# Altium schematic symbol library kmilo17pet-NSC_Amplifier.SchLib: 1665 symbols (part 21 of 44)
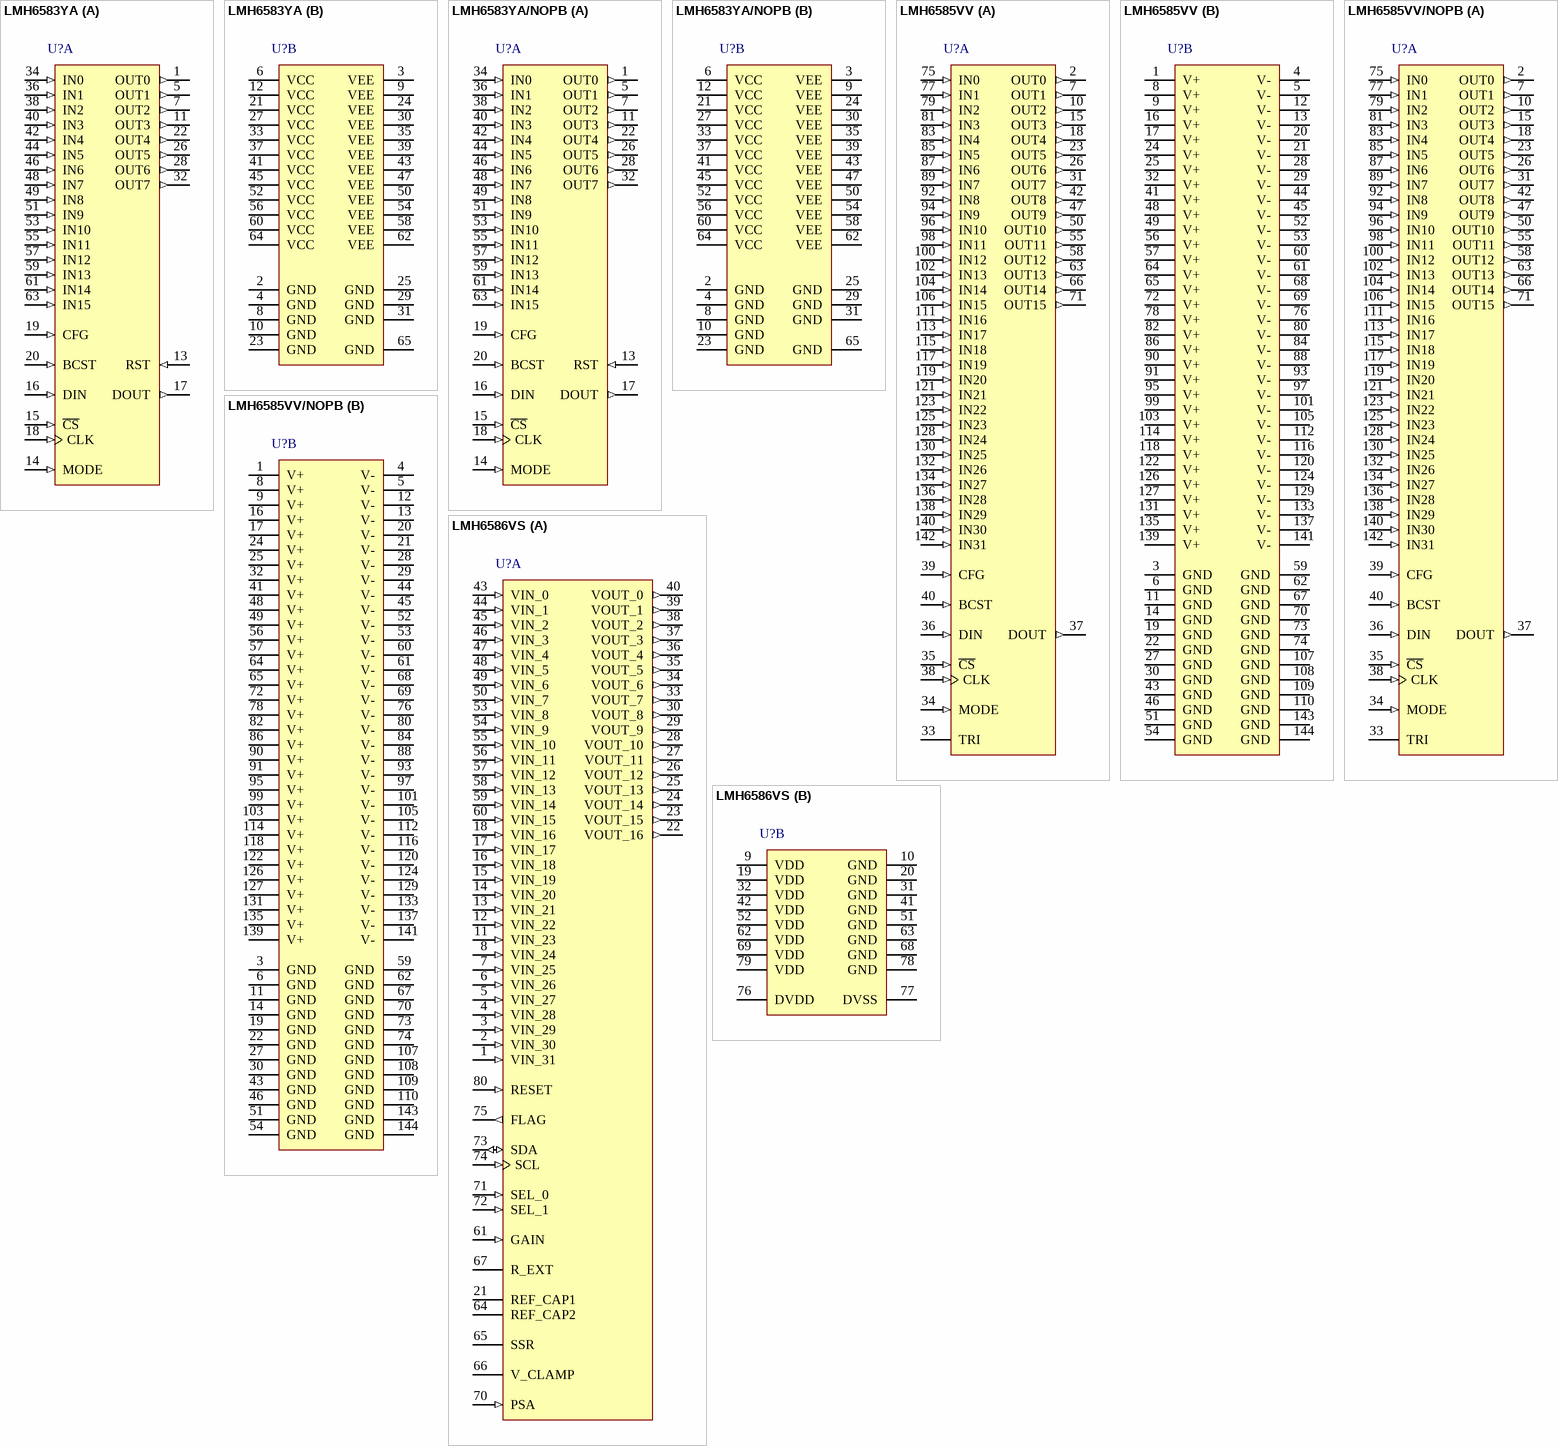
[diagram p104: symbols LMH6583YA to LMH6586VS]

## LMH6583YA/NOPB
designator U?
16x8 550 MHz Analog Crosspoint Switch, Gain of 2, 64-pin TQFP-EP, Pb-Free; PartNumber: LMH6583YA/NOPB; Manufacturer: National Semiconductor; PackageTopMarking: NSUZXYYTTE#*LMH6583YA; PowerWise: N; CompType: Amplifiers; High-Reliability: Y; DatasheetVersion: Aug-2007; PackageVersion: revA, May-2004; PackageReference: VXE64A; PackageDescription: TQFP, 10x10x1mm Body, 64 Lead, 0.5mm Pitch, Exposed Pad; RoHS: Y; PinCount: 64; Code_JEDEC: MS-026-ACD; ComponentLink1Description: Manufacturer URL; ComponentLink1URL: http://www.national.com/; ComponentLink2Description: LMH6583 Datasheet; ComponentLink2URL: http://www.national.com/ds/LM/LMH6583.pdf; ComponentLink3Description: LMH6583 Web Page; ComponentLink3URL: http://www.national.com/pf/LM/LMH6583.html; ComponentLink4Description: VXE64A Package Page; ComponentLink4URL: http://www.national.com/packaging/folders/vxe64a.html
footprint VXE64A_N (Thin QFP, 64-Leads, Body 10x10mm, Pitch 0.5mm, Exposed Pad, IPC Medium Density)
footprint VXE64A_L (Thin QFP, 64-Leads, Body 10x10mm, Pitch 0.5mm, Exposed Pad, IPC High Density)
footprint VXE64A_M (Thin QFP, 64-Leads, Body 10x10mm, Pitch 0.5mm, Exposed Pad, IPC Low Density)
part A pins: 1 OUT0 (out), 5 OUT1 (out), 7 OUT2 (out), 11 OUT3 (out), 13 RST (in), 14 MODE (in), 15 ~{CS} (in), 16 DIN (in), 17 DOUT (out), 18 CLK (in), 19 CFG (in), 20 BCST (in), 22 OUT4 (out), 26 OUT5 (out), 28 OUT6 (out), 32 OUT7 (out), 34 IN0 (in), 36 IN1 (in), 38 IN2 (in), 40 IN3 (in), 42 IN4 (in), 44 IN5 (in), 46 IN6 (in), 48 IN7 (in), 49 IN8 (in), 51 IN9 (in), 53 IN10 (in), 55 IN11 (in), 57 IN12 (in), 59 IN13 (in), 61 IN14 (in), 63 IN15 (in)
part B pins: 2 GND (power), 3 VEE (power), 4 GND (power), 6 VCC (power), 8 GND (power), 9 VEE (power), 10 GND (power), 12 VCC (power), 21 VCC (power), 23 GND (power), 24 VEE (power), 25 GND (power), 27 VCC (power), 29 GND (power), 30 VEE (power), 31 GND (power), 33 VCC (power), 35 VEE (power), 37 VCC (power), 39 VEE (power), 41 VCC (power), 43 VEE (power), 45 VCC (power), 47 VEE (power), 50 VEE (power), 52 VCC (power), 54 VEE (power), 56 VCC (power), 58 VEE (power), 60 VCC (power), 62 VEE (power), 64 VCC (power), 65 GND (power)

## LMH6585VV
designator U?
32x16 400 MHz Analog Crosspoint Switch, Gain of 2, 144-pin LQFP; PartNumber: LMH6585VV; Manufacturer: National Semiconductor; PackageTopMarking: NSUZXYYTTE#*LMH6585VV; PowerWise: N; CompType: Amplifiers; High-Reliability: Y; DatasheetVersion: Oct-2008; PackageVersion: verA, Mar-2007; PackageReference: VNG144C; PackageDescription: LQFP, 20 x 20 x 1.4mm Body, 144 Lead, 0.5mm Pitch; RoHS: Y; PinCount: 144; Code_JEDEC: MS-026-BFB; ComponentLink1Description: Manufacturer URL; ComponentLink1URL: http://www.national.com/; ComponentLink2Description: LMH6585 Datasheet; ComponentLink2URL: http://www.national.com/ds/LM/LMH6585.pdf; ComponentLink3Description: LMH6585 Web Page; ComponentLink3URL: http://www.national.com/pf/LM/LMH6585.html; ComponentLink4Description: VNG144C Package Page; ComponentLink4URL: http://www.national.com/packaging/folders/vng144c.html
footprint VNG144C_N (Thin QFP, 144-Leads, Body 20x20mm, Pitch 0.5mm, IPC Medium Density)
footprint VNG144C_L (Thin QFP, 144-Leads, Body 20x20mm, Pitch 0.5mm, IPC High Density)
footprint VNG144C_M (Thin QFP, 144-Leads, Body 20x20mm, Pitch 0.5mm, IPC Low Density)
part A pins: 2 OUT0 (out), 7 OUT1 (out), 10 OUT2 (out), 15 OUT3 (out), 18 OUT4 (out), 23 OUT5 (out), 26 OUT6 (out), 31 OUT7 (out), 33 TRI, 34 MODE (in), 35 ~{CS} (in), 36 DIN (in), 37 DOUT (out), 38 CLK (in), 39 CFG (in), 40 BCST (in), 42 OUT8 (out), 47 OUT9 (out), 50 OUT10 (out), 55 OUT11 (out), 58 OUT12 (out), 63 OUT13 (out), 66 OUT14 (out), 71 OUT15 (out), 75 IN0 (in), 77 IN1 (in), 79 IN2 (in), 81 IN3 (in), 83 IN4 (in), 85 IN5 (in), 87 IN6 (in), 89 IN7 (in), 92 IN8 (in), 94 IN9 (in), 96 IN10 (in), 98 IN11 (in), 100 IN12 (in), 102 IN13 (in), 104 IN14 (in), 106 IN15 (in), 111 IN16 (in), 113 IN17 (in), 115 IN18 (in), 117 IN19 (in), 119 IN20 (in), 121 IN21 (in), 123 IN22 (in), 125 IN23 (in), 128 IN24 (in), 130 IN25 (in), 132 IN26 (in), 134 IN27 (in), 136 IN28 (in), 138 IN29 (in), 140 IN30 (in), 142 IN31 (in)
part B pins: 1 V+ (power), 3 GND (power), 4 V- (power), 5 V- (power), 6 GND (power), 8 V+ (power), 9 V+ (power), 11 GND (power), 12 V- (power), 13 V- (power), 14 GND (power), 16 V+ (power), 17 V+ (power), 19 GND (power), 20 V- (power), 21 V- (power), 22 GND (power), 24 V+ (power), 25 V+ (power), 27 GND (power), 28 V- (power), 29 V- (power), 30 GND (power), 32 V+ (power), 41 V+ (power), 43 GND (power), 44 V- (power), 45 V- (power), 46 GND (power), 48 V+ (power), 49 V+ (power), 51 GND (power), 52 V- (power), 53 V- (power), 54 GND (power), 56 V+ (power), 57 V+ (power), 59 GND (power), 60 V- (power), 61 V- (power), 62 GND (power), 64 V+ (power), 65 V+ (power), 67 GND (power), 68 V- (power), 69 V- (power), 70 GND (power), 72 V+ (power), 73 GND (power), 74 GND (power), 76 V- (power), 78 V+ (power), 80 V- (power), 82 V+ (power), 84 V- (power), 86 V+ (power), 88 V- (power), 90 V+ (power), 91 V+ (power), 93 V- (power), 95 V+ (power), 97 V- (power), 99 V+ (power), 101 V- (power), 103 V+ (power), 105 V- (power), 107 GND (power), 108 GND (power), 109 GND (power), 110 GND (power), 112 V- (power), 114 V+ (power), 116 V- (power), 118 V+ (power), 120 V- (power), 122 V+ (power), 124 V- (power), 126 V+ (power), 127 V+ (power), 129 V- (power), 131 V+ (power), 133 V- (power), 135 V+ (power), 137 V- (power), 139 V+ (power), 141 V- (power), 143 GND (power), 144 GND (power)

## LMH6585VV/NOPB
designator U?
32x16 400 MHz Analog Crosspoint Switch, Gain of 2, 144-pin LQFP, Pb-Free; PartNumber: LMH6585VV/NOPB; Manufacturer: National Semiconductor; PackageTopMarking: NSUZXYYTTE#*LMH6585VV; PowerWise: N; CompType: Amplifiers; High-Reliability: Y; DatasheetVersion: Oct-2008; PackageVersion: verA, Mar-2007; PackageReference: VNG144C; PackageDescription: LQFP, 20 x 20 x 1.4mm Body, 144 Lead, 0.5mm Pitch; RoHS: Y; PinCount: 144; Code_JEDEC: MS-026-BFB; ComponentLink1Description: Manufacturer URL; ComponentLink1URL: http://www.national.com/; ComponentLink2Description: LMH6585 Datasheet; ComponentLink2URL: http://www.national.com/ds/LM/LMH6585.pdf; ComponentLink3Description: LMH6585 Web Page; ComponentLink3URL: http://www.national.com/pf/LM/LMH6585.html; ComponentLink4Description: VNG144C Package Page; ComponentLink4URL: http://www.national.com/packaging/folders/vng144c.html
footprint VNG144C_N (Thin QFP, 144-Leads, Body 20x20mm, Pitch 0.5mm, IPC Medium Density)
footprint VNG144C_L (Thin QFP, 144-Leads, Body 20x20mm, Pitch 0.5mm, IPC High Density)
footprint VNG144C_M (Thin QFP, 144-Leads, Body 20x20mm, Pitch 0.5mm, IPC Low Density)
part A pins: 2 OUT0 (out), 7 OUT1 (out), 10 OUT2 (out), 15 OUT3 (out), 18 OUT4 (out), 23 OUT5 (out), 26 OUT6 (out), 31 OUT7 (out), 33 TRI, 34 MODE (in), 35 ~{CS} (in), 36 DIN (in), 37 DOUT (out), 38 CLK (in), 39 CFG (in), 40 BCST (in), 42 OUT8 (out), 47 OUT9 (out), 50 OUT10 (out), 55 OUT11 (out), 58 OUT12 (out), 63 OUT13 (out), 66 OUT14 (out), 71 OUT15 (out), 75 IN0 (in), 77 IN1 (in), 79 IN2 (in), 81 IN3 (in), 83 IN4 (in), 85 IN5 (in), 87 IN6 (in), 89 IN7 (in), 92 IN8 (in), 94 IN9 (in), 96 IN10 (in), 98 IN11 (in), 100 IN12 (in), 102 IN13 (in), 104 IN14 (in), 106 IN15 (in), 111 IN16 (in), 113 IN17 (in), 115 IN18 (in), 117 IN19 (in), 119 IN20 (in), 121 IN21 (in), 123 IN22 (in), 125 IN23 (in), 128 IN24 (in), 130 IN25 (in), 132 IN26 (in), 134 IN27 (in), 136 IN28 (in), 138 IN29 (in), 140 IN30 (in), 142 IN31 (in)
part B pins: 1 V+ (power), 3 GND (power), 4 V- (power), 5 V- (power), 6 GND (power), 8 V+ (power), 9 V+ (power), 11 GND (power), 12 V- (power), 13 V- (power), 14 GND (power), 16 V+ (power), 17 V+ (power), 19 GND (power), 20 V- (power), 21 V- (power), 22 GND (power), 24 V+ (power), 25 V+ (power), 27 GND (power), 28 V- (power), 29 V- (power), 30 GND (power), 32 V+ (power), 41 V+ (power), 43 GND (power), 44 V- (power), 45 V- (power), 46 GND (power), 48 V+ (power), 49 V+ (power), 51 GND (power), 52 V- (power), 53 V- (power), 54 GND (power), 56 V+ (power), 57 V+ (power), 59 GND (power), 60 V- (power), 61 V- (power), 62 GND (power), 64 V+ (power), 65 V+ (power), 67 GND (power), 68 V- (power), 69 V- (power), 70 GND (power), 72 V+ (power), 73 GND (power), 74 GND (power), 76 V- (power), 78 V+ (power), 80 V- (power), 82 V+ (power), 84 V- (power), 86 V+ (power), 88 V- (power), 90 V+ (power), 91 V+ (power), 93 V- (power), 95 V+ (power), 97 V- (power), 99 V+ (power), 101 V- (power), 103 V+ (power), 105 V- (power), 107 GND (power), 108 GND (power), 109 GND (power), 110 GND (power), 112 V- (power), 114 V+ (power), 116 V- (power), 118 V+ (power), 120 V- (power), 122 V+ (power), 124 V- (power), 126 V+ (power), 127 V+ (power), 129 V- (power), 131 V+ (power), 133 V- (power), 135 V+ (power), 137 V- (power), 139 V+ (power), 141 V- (power), 143 GND (power), 144 GND (power)

## LMH6586VS
designator U?
32x16 Video Crosspoint Switch, 80-pin TQFP; PartNumber: LMH6586VS; Manufacturer: National Semiconductor; PackageTopMarking: NSUZXYTT*LMH6586VS; PowerWise: N; CompType: Amplifiers; High-Reliability: Y; DatasheetVersion: Jul-2008; PackageVersion: revB, Dec-1999; PackageReference: VHB80A; PackageDescription: LQFP, Jedec, Metric, 12 x 12 x 1.0mm, 80 Lead; RoHS: Y; PinCount: 80; Code_JEDEC: MS-026-ADD; ComponentLink1Description: Manufacturer URL; ComponentLink1URL: http://www.national.com/; ComponentLink2Description: LMH6586 Datasheet; ComponentLink2URL: http://www.national.com/ds/LM/LMH6586.pdf; ComponentLink3Description: LMH6586 Web Page; ComponentLink3URL: http://www.national.com/pf/LM/LMH6586.html; ComponentLink4Description: VHB80A Package Page; ComponentLink4URL: http://www.national.com/packaging/folders/vhb80a.html
footprint VHB80A_N (Thin QFP, 80-Leads, Body 12x12mm, Pitch 0.5mm, IPC Medium Density)
footprint VHB80A_L (Thin QFP, 80-Leads, Body 12x12mm, Pitch 0.5mm, IPC High Density)
footprint VHB80A_M (Thin QFP, 80-Leads, Body 12x12mm, Pitch 0.5mm, IPC Low Density)
part A pins: 1 VIN_31 (in), 2 VIN_30 (in), 3 VIN_29 (in), 4 VIN_28 (in), 5 VIN_27 (in), 6 VIN_26 (in), 7 VIN_25 (in), 8 VIN_24 (in), 11 VIN_23 (in), 12 VIN_22 (in), 13 VIN_21 (in), 14 VIN_20 (in), 15 VIN_19 (in), 16 VIN_18 (in), 17 VIN_17 (in), 18 VIN_16 (in), 21 REF_CAP1, 22 VOUT_16 (out), 23 VOUT_15 (out), 24 VOUT_14 (out), 25 VOUT_13 (out), 26 VOUT_12 (out), 27 VOUT_11 (out), 28 VOUT_10 (out), 29 VOUT_9 (out), 30 VOUT_8 (out), 33 VOUT_7 (out), 34 VOUT_6 (out), 35 VOUT_5 (out), 36 VOUT_4 (out), 37 VOUT_3 (out), 38 VOUT_2 (out), 39 VOUT_1 (out), 40 VOUT_0 (out), 43 VIN_0 (in), 44 VIN_1 (in), 45 VIN_2 (in), 46 VIN_3 (in), 47 VIN_4 (in), 48 VIN_5 (in), 49 VIN_6 (in), 50 VIN_7 (in), 53 VIN_8 (in), 54 VIN_9 (in), 55 VIN_10 (in), 56 VIN_11 (in), 57 VIN_12 (in), 58 VIN_13 (in), 59 VIN_14 (in), 60 VIN_15 (in), 61 GAIN (in), 64 REF_CAP2, 65 SSR (power), 66 V_CLAMP, 67 R_EXT, 70 PSA (in), 71 SEL_0 (in), 72 SEL_1 (in), 73 SDA (io), 74 SCL (in), 75 FLAG (out), 80 RESET (in)
part B pins: 9 VDD (power), 10 GND (power), 19 VDD (power), 20 GND (power), 31 GND (power), 32 VDD (power), 41 GND (power), 42 VDD (power), 51 GND (power), 52 VDD (power), 62 VDD (power), 63 GND (power), 68 GND (power), 69 VDD (power), 76 DVDD (power), 77 DVSS (power), 78 GND (power), 79 VDD (power)

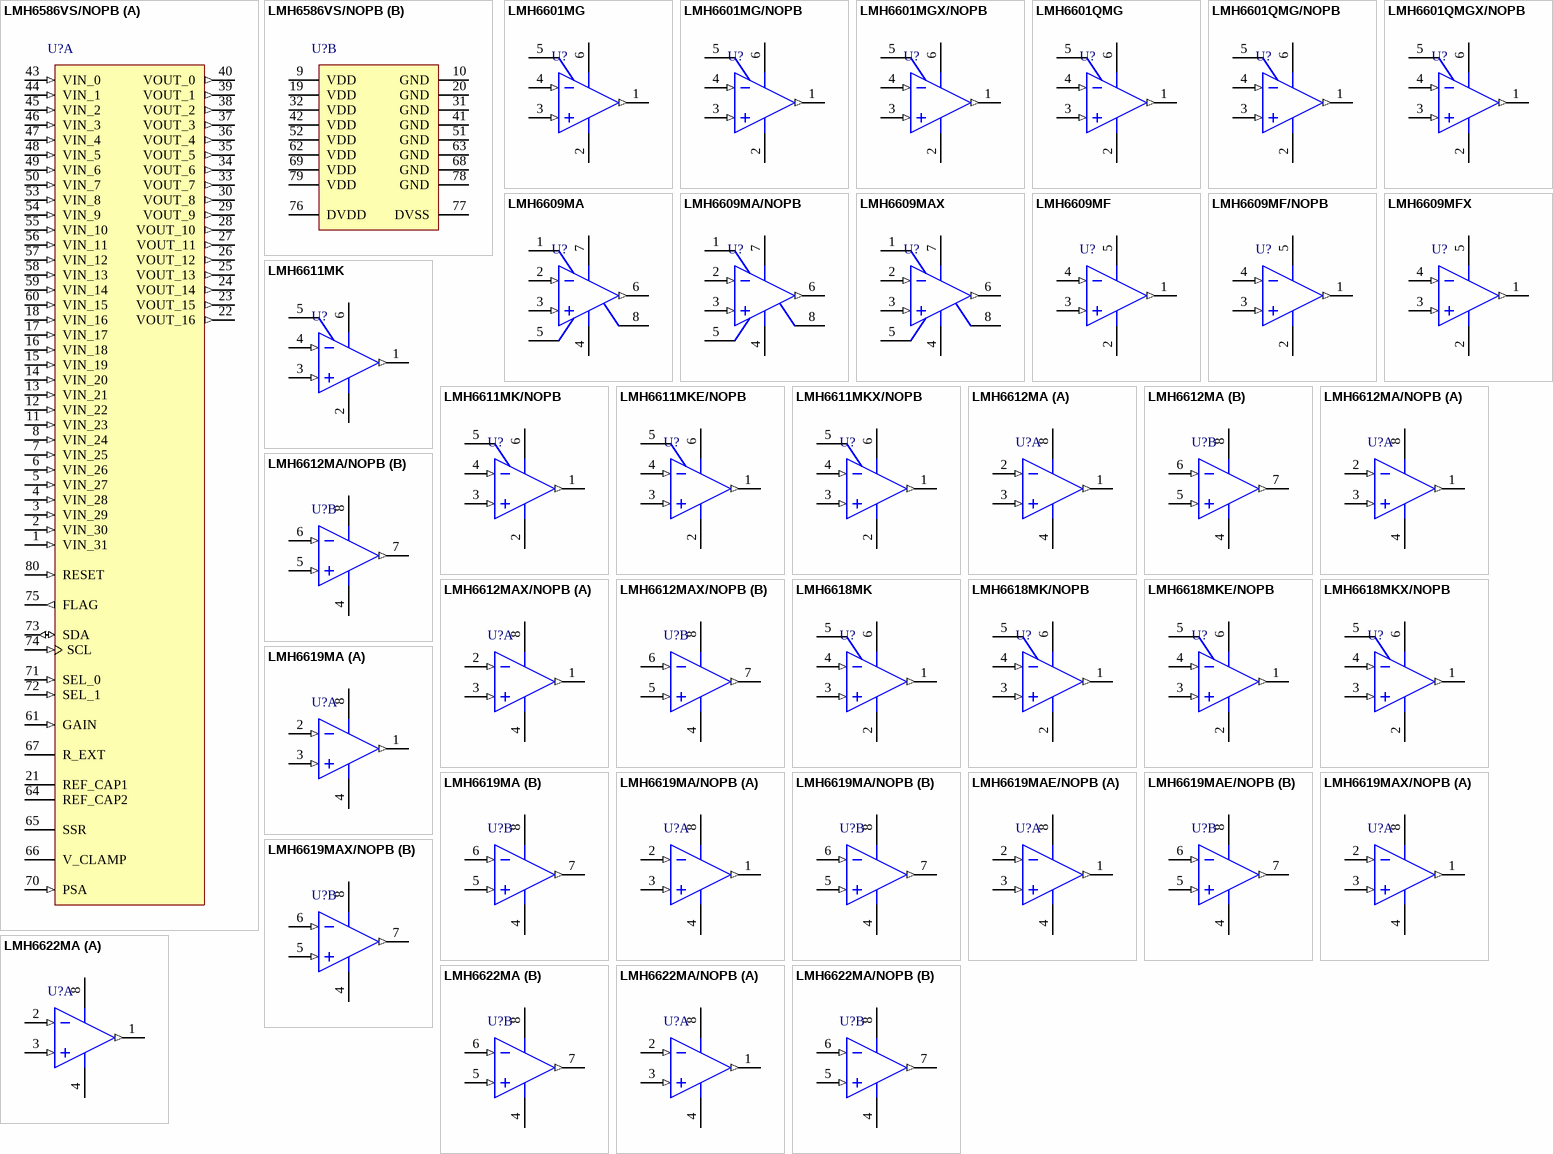
[diagram p44: symbols LMH6586VS/NOPB to LMH6622MA/NOPB]

## LMH6586VS/NOPB
designator U?
32x16 Video Crosspoint Switch, 80-pin TQFP, Pb-Free; PartNumber: LMH6586VS/NOPB; Manufacturer: National Semiconductor; PackageTopMarking: NSUZXYTTE#*LMH6586VS; PowerWise: N; CompType: Amplifiers; High-Reliability: Y; DatasheetVersion: Jul-2008; PackageVersion: revB, Dec-1999; PackageReference: VHB80A; PackageDescription: LQFP, Jedec, Metric, 12 x 12 x 1.0mm, 80 Lead; RoHS: Y; PinCount: 80; Code_JEDEC: MS-026-ADD; ComponentLink1Description: Manufacturer URL; ComponentLink1URL: http://www.national.com/; ComponentLink2Description: LMH6586 Datasheet; ComponentLink2URL: http://www.national.com/ds/LM/LMH6586.pdf; ComponentLink3Description: LMH6586 Web Page; ComponentLink3URL: http://www.national.com/pf/LM/LMH6586.html; ComponentLink4Description: VHB80A Package Page; ComponentLink4URL: http://www.national.com/packaging/folders/vhb80a.html
footprint VHB80A_N (Thin QFP, 80-Leads, Body 12x12mm, Pitch 0.5mm, IPC Medium Density)
footprint VHB80A_L (Thin QFP, 80-Leads, Body 12x12mm, Pitch 0.5mm, IPC High Density)
footprint VHB80A_M (Thin QFP, 80-Leads, Body 12x12mm, Pitch 0.5mm, IPC Low Density)
part A pins: 1 VIN_31 (in), 2 VIN_30 (in), 3 VIN_29 (in), 4 VIN_28 (in), 5 VIN_27 (in), 6 VIN_26 (in), 7 VIN_25 (in), 8 VIN_24 (in), 11 VIN_23 (in), 12 VIN_22 (in), 13 VIN_21 (in), 14 VIN_20 (in), 15 VIN_19 (in), 16 VIN_18 (in), 17 VIN_17 (in), 18 VIN_16 (in), 21 REF_CAP1, 22 VOUT_16 (out), 23 VOUT_15 (out), 24 VOUT_14 (out), 25 VOUT_13 (out), 26 VOUT_12 (out), 27 VOUT_11 (out), 28 VOUT_10 (out), 29 VOUT_9 (out), 30 VOUT_8 (out), 33 VOUT_7 (out), 34 VOUT_6 (out), 35 VOUT_5 (out), 36 VOUT_4 (out), 37 VOUT_3 (out), 38 VOUT_2 (out), 39 VOUT_1 (out), 40 VOUT_0 (out), 43 VIN_0 (in), 44 VIN_1 (in), 45 VIN_2 (in), 46 VIN_3 (in), 47 VIN_4 (in), 48 VIN_5 (in), 49 VIN_6 (in), 50 VIN_7 (in), 53 VIN_8 (in), 54 VIN_9 (in), 55 VIN_10 (in), 56 VIN_11 (in), 57 VIN_12 (in), 58 VIN_13 (in), 59 VIN_14 (in), 60 VIN_15 (in), 61 GAIN (in), 64 REF_CAP2, 65 SSR (power), 66 V_CLAMP, 67 R_EXT, 70 PSA (in), 71 SEL_0 (in), 72 SEL_1 (in), 73 SDA (io), 74 SCL (in), 75 FLAG (out), 80 RESET (in)
part B pins: 9 VDD (power), 10 GND (power), 19 VDD (power), 20 GND (power), 31 GND (power), 32 VDD (power), 41 GND (power), 42 VDD (power), 51 GND (power), 52 VDD (power), 62 VDD (power), 63 GND (power), 68 GND (power), 69 VDD (power), 76 DVDD (power), 77 DVSS (power), 78 GND (power), 79 VDD (power)

## LMH6601MG
designator U?
250 MHz, 2.4V CMOS Operational Amplifier with Shutdown, 6-pin SC-70; PartNumber: LMH6601MG; Manufacturer: National Semiconductor; PackageTopMarking: A95*XTT; PowerWise: N; CompType: Amplifiers; High-Reliability: Y; DatasheetVersion: Oct-2009; PackageVersion: revB, Jun-2007; PackageReference: MAA06A; PackageDescription: Molded SC-70, 2 x 1.25 x .9mm, 6 Lead, 0.65mm Pitch; RoHS: Y; PinCount: 6; ComponentLink1Description: Manufacturer URL; ComponentLink1URL: http://www.national.com/; ComponentLink2Description: LMH6601 Datasheet; ComponentLink2URL: http://www.national.com/ds/LM/LMH6601.pdf; ComponentLink3Description: LMH6601 Web Page; ComponentLink3URL: http://www.national.com/pf/LM/LMH6601.html; ComponentLink4Description: MAA06A Package Page; ComponentLink4URL: http://www.national.com/packaging/folders/maa06a.html
footprint MAA06A_N (SOT363, 6-Leads, Body 2x1.3mm, Pitch 0.65mm, Lead Span 2.1mm, IPC Medium Density)
footprint MAA06A_L (SOT363, 6-Leads, Body 2x1.3mm, Pitch 0.65mm, Lead Span 2.1mm, IPC High Density)
footprint MAA06A_M (SOT363, 6-Leads, Body 2x1.3mm, Pitch 0.65mm, Lead Span 2.1mm, IPC Low Density)
pins: 1 OUT (out), 2 V- (power), 3 IN+ (in), 4 IN- (in), 5 ~{SD}, 6 V+ (power)

## LMH6601MG/NOPB
designator U?
250 MHz, 2.4V CMOS Operational Amplifier with Shutdown, 6-pin SC-70, Pb-Free; PartNumber: LMH6601MG/NOPB; Manufacturer: National Semiconductor; PackageTopMarking: A95*XTT; PowerWise: N; CompType: Amplifiers; High-Reliability: Y; DatasheetVersion: Oct-2009; PackageVersion: revB, Jun-2007; PackageReference: MAA06A; PackageDescription: Molded SC-70, 2 x 1.25 x .9mm, 6 Lead, 0.65mm Pitch; RoHS: Y; PinCount: 6; ComponentLink1Description: Manufacturer URL; ComponentLink1URL: http://www.national.com/; ComponentLink2Description: LMH6601 Datasheet; ComponentLink2URL: http://www.national.com/ds/LM/LMH6601.pdf; ComponentLink3Description: LMH6601 Web Page; ComponentLink3URL: http://www.national.com/pf/LM/LMH6601.html; ComponentLink4Description: MAA06A Package Page; ComponentLink4URL: http://www.national.com/packaging/folders/maa06a.html
footprint MAA06A_N (SOT363, 6-Leads, Body 2x1.3mm, Pitch 0.65mm, Lead Span 2.1mm, IPC Medium Density)
footprint MAA06A_L (SOT363, 6-Leads, Body 2x1.3mm, Pitch 0.65mm, Lead Span 2.1mm, IPC High Density)
footprint MAA06A_M (SOT363, 6-Leads, Body 2x1.3mm, Pitch 0.65mm, Lead Span 2.1mm, IPC Low Density)
pins: 1 OUT (out), 2 V- (power), 3 IN+ (in), 4 IN- (in), 5 ~{SD}, 6 V+ (power)

## LMH6601MGX/NOPB
designator U?
250 MHz, 2.4V CMOS Operational Amplifier with Shutdown, 6-pin SC-70, Pb-Free; PartNumber: LMH6601MGX/NOPB; Manufacturer: National Semiconductor; PackageTopMarking: A95*XTT; PowerWise: N; CompType: Amplifiers; High-Reliability: Y; DatasheetVersion: Oct-2009; PackageVersion: revB, Jun-2007; PackageReference: MAA06A; PackageDescription: Molded SC-70, 2 x 1.25 x .9mm, 6 Lead, 0.65mm Pitch; RoHS: Y; PinCount: 6; ComponentLink1Description: Manufacturer URL; ComponentLink1URL: http://www.national.com/; ComponentLink2Description: LMH6601 Datasheet; ComponentLink2URL: http://www.national.com/ds/LM/LMH6601.pdf; ComponentLink3Description: LMH6601 Web Page; ComponentLink3URL: http://www.national.com/pf/LM/LMH6601.html; ComponentLink4Description: MAA06A Package Page; ComponentLink4URL: http://www.national.com/packaging/folders/maa06a.html
footprint MAA06A_N (SOT363, 6-Leads, Body 2x1.3mm, Pitch 0.65mm, Lead Span 2.1mm, IPC Medium Density)
footprint MAA06A_L (SOT363, 6-Leads, Body 2x1.3mm, Pitch 0.65mm, Lead Span 2.1mm, IPC High Density)
footprint MAA06A_M (SOT363, 6-Leads, Body 2x1.3mm, Pitch 0.65mm, Lead Span 2.1mm, IPC Low Density)
pins: 1 OUT (out), 2 V- (power), 3 IN+ (in), 4 IN- (in), 5 ~{SD}, 6 V+ (power)

## LMH6601QMG
designator U?
250 MHz, 2.4V CMOS Operational Amplifier with Shutdown, 6-pin SC-70; PartNumber: LMH6601QMG; Manufacturer: National Semiconductor; PackageTopMarking: AKA*XTT; PowerWise: N; CompType: Amplifiers; High-Reliability: Y; DatasheetVersion: Oct-2009; PackageVersion: revB, Jun-2007; PackageReference: MAA06A; PackageDescription: Molded SC-70, 2 x 1.25 x .9mm, 6 Lead, 0.65mm Pitch; RoHS: Y; PinCount: 6; ComponentLink1Description: Manufacturer URL; ComponentLink1URL: http://www.national.com/; ComponentLink2Description: LMH6601Q Datasheet; ComponentLink2URL: http://www.national.com/ds/LM/LMH6601.pdf; ComponentLink3Description: LMH6601Q Web Page; ComponentLink3URL: http://www.national.com/pf/LM/LMH6601Q.html; ComponentLink4Description: MAA06A Package Page; ComponentLink4URL: http://www.national.com/packaging/folders/maa06a.html
footprint MAA06A_N (SOT363, 6-Leads, Body 2x1.3mm, Pitch 0.65mm, Lead Span 2.1mm, IPC Medium Density)
footprint MAA06A_L (SOT363, 6-Leads, Body 2x1.3mm, Pitch 0.65mm, Lead Span 2.1mm, IPC High Density)
footprint MAA06A_M (SOT363, 6-Leads, Body 2x1.3mm, Pitch 0.65mm, Lead Span 2.1mm, IPC Low Density)
pins: 1 OUT (out), 2 V- (power), 3 IN+ (in), 4 IN- (in), 5 ~{SD}, 6 V+ (power)

## LMH6601QMG/NOPB
designator U?
250 MHz, 2.4V CMOS Operational Amplifier with Shutdown, 6-pin SC-70, Pb-Free; PartNumber: LMH6601QMG/NOPB; Manufacturer: National Semiconductor; PackageTopMarking: AKA*XTT; PowerWise: N; CompType: Amplifiers; High-Reliability: Y; DatasheetVersion: Oct-2009; PackageVersion: revB, Jun-2007; PackageReference: MAA06A; PackageDescription: Molded SC-70, 2 x 1.25 x .9mm, 6 Lead, 0.65mm Pitch; RoHS: Y; PinCount: 6; ComponentLink1Description: Manufacturer URL; ComponentLink1URL: http://www.national.com/; ComponentLink2Description: LMH6601 Datasheet; ComponentLink2URL: http://www.national.com/ds/LM/LMH6601.pdf; ComponentLink3Description: LMH6601 Web Page; ComponentLink3URL: http://www.national.com/pf/LM/LMH6601.html; ComponentLink4Description: MAA06A Package Page; ComponentLink4URL: http://www.national.com/packaging/folders/maa06a.html
footprint MAA06A_N (SOT363, 6-Leads, Body 2x1.3mm, Pitch 0.65mm, Lead Span 2.1mm, IPC Medium Density)
footprint MAA06A_L (SOT363, 6-Leads, Body 2x1.3mm, Pitch 0.65mm, Lead Span 2.1mm, IPC High Density)
footprint MAA06A_M (SOT363, 6-Leads, Body 2x1.3mm, Pitch 0.65mm, Lead Span 2.1mm, IPC Low Density)
pins: 1 OUT (out), 2 V- (power), 3 IN+ (in), 4 IN- (in), 5 ~{SD}, 6 V+ (power)

## LMH6601QMGX/NOPB
designator U?
250 MHz, 2.4V CMOS Operational Amplifier with Shutdown, 6-pin SC-70, Pb-Free; PartNumber: LMH6601QMGX/NOPB; Manufacturer: National Semiconductor; PackageTopMarking: AKA*XTT; PowerWise: N; CompType: Amplifiers; High-Reliability: Y; DatasheetVersion: Oct-2009; PackageVersion: revB, Jun-2007; PackageReference: MAA06A; PackageDescription: Molded SC-70, 2 x 1.25 x .9mm, 6 Lead, 0.65mm Pitch; RoHS: Y; PinCount: 6; ComponentLink1Description: Manufacturer URL; ComponentLink1URL: http://www.national.com/; ComponentLink2Description: LMH6601 Datasheet; ComponentLink2URL: http://www.national.com/ds/LM/LMH6601.pdf; ComponentLink3Description: LMH6601 Web Page; ComponentLink3URL: http://www.national.com/pf/LM/LMH6601.html; ComponentLink4Description: MAA06A Package Page; ComponentLink4URL: http://www.national.com/packaging/folders/maa06a.html
footprint MAA06A_N (SOT363, 6-Leads, Body 2x1.3mm, Pitch 0.65mm, Lead Span 2.1mm, IPC Medium Density)
footprint MAA06A_L (SOT363, 6-Leads, Body 2x1.3mm, Pitch 0.65mm, Lead Span 2.1mm, IPC High Density)
footprint MAA06A_M (SOT363, 6-Leads, Body 2x1.3mm, Pitch 0.65mm, Lead Span 2.1mm, IPC Low Density)
pins: 1 OUT (out), 2 V- (power), 3 IN+ (in), 4 IN- (in), 5 ~{SD}, 6 V+ (power)

## LMH6609MA
designator U?
900 MHz Voltage Feedback Op Amp, 8-pin Narrow SOIC; PartNumber: LMH6609MA; Manufacturer: National Semiconductor; PackageTopMarking: NSZXTT*LMH66*09MA; PowerWise: N; CompType: Amplifiers; High-Reliability: Y; DatasheetVersion: Aug-2003; PackageVersion: revM, May-2009; PackageReference: M08A; PackageDescription: SOIC Narrow, 4.9 x 3.9 x 1.45mm, 8 Lead, 1.27mm Pitch; RoHS: N; PinCount: 8; Code_JEDEC: MS-012-AA; Code_IPC: SOIC127P600-8; ComponentLink1Description: Manufacturer URL; ComponentLink1URL: http://www.national.com/; ComponentLink2Description: LMH6609 Datasheet; ComponentLink2URL: http://www.national.com/ds/LM/LMH6609.pdf; ComponentLink3Description: LMH6609 Web Page; ComponentLink3URL: http://www.national.com/pf/LM/LMH6609.html; ComponentLink4Description: M08A Package Page; ComponentLink4URL: http://www.national.com/packaging/folders/m08a.html
footprint M08A_N (SOIC, 8-Leads, Body 4.9x3.9mm, Pitch 1.27mm, IPC Medium Density)
footprint M08A_L (SOIC, 8-Leads, Body 4.9x3.9mm, Pitch 1.27mm, IPC High Density)
footprint M08A_M (SOIC, 8-Leads, Body 4.9x3.9mm, Pitch 1.27mm, IPC Low Density)
pins: 1 NC, 2 IN- (in), 3 IN+ (in), 4 V- (power), 5 NC, 6 OUT (out), 7 V+ (power), 8 NC

## LMH6609MA/NOPB
designator U?
900 MHz Voltage Feedback Op Amp, 8-pin Narrow SOIC, Pb-Free; PartNumber: LMH6609MA/NOPB; Manufacturer: National Semiconductor; PackageTopMarking: NSZXTT*LMH66*09MA; PowerWise: N; CompType: Amplifiers; High-Reliability: Y; DatasheetVersion: Aug-2003; PackageVersion: revM, May-2009; PackageReference: M08A; PackageDescription: SOIC Narrow, 4.9 x 3.9 x 1.45mm, 8 Lead, 1.27mm Pitch; RoHS: Y; PinCount: 8; Code_JEDEC: MS-012-AA; Code_IPC: SOIC127P600-8; ComponentLink1Description: Manufacturer URL; ComponentLink1URL: http://www.national.com/; ComponentLink2Description: LMH6609 Datasheet; ComponentLink2URL: http://www.national.com/ds/LM/LMH6609.pdf; ComponentLink3Description: LMH6609 Web Page; ComponentLink3URL: http://www.national.com/pf/LM/LMH6609.html; ComponentLink4Description: M08A Package Page; ComponentLink4URL: http://www.national.com/packaging/folders/m08a.html
footprint M08A_N (SOIC, 8-Leads, Body 4.9x3.9mm, Pitch 1.27mm, IPC Medium Density)
footprint M08A_L (SOIC, 8-Leads, Body 4.9x3.9mm, Pitch 1.27mm, IPC High Density)
footprint M08A_M (SOIC, 8-Leads, Body 4.9x3.9mm, Pitch 1.27mm, IPC Low Density)
pins: 1 NC, 2 IN- (in), 3 IN+ (in), 4 V- (power), 5 NC, 6 OUT (out), 7 V+ (power), 8 NC

## LMH6609MAX
designator U?
900 MHz Voltage Feedback Op Amp, 8-pin Narrow SOIC; PartNumber: LMH6609MAX; Manufacturer: National Semiconductor; PackageTopMarking: NSZXTT*LMH66*09MA; PowerWise: N; CompType: Amplifiers; High-Reliability: Y; DatasheetVersion: Aug-2003; PackageVersion: revM, May-2009; PackageReference: M08A; PackageDescription: SOIC Narrow, 4.9 x 3.9 x 1.45mm, 8 Lead, 1.27mm Pitch; RoHS: N; PinCount: 8; Code_JEDEC: MS-012-AA; Code_IPC: SOIC127P600-8; ComponentLink1Description: Manufacturer URL; ComponentLink1URL: http://www.national.com/; ComponentLink2Description: LMH6609 Datasheet; ComponentLink2URL: http://www.national.com/ds/LM/LMH6609.pdf; ComponentLink3Description: LMH6609 Web Page; ComponentLink3URL: http://www.national.com/pf/LM/LMH6609.html; ComponentLink4Description: M08A Package Page; ComponentLink4URL: http://www.national.com/packaging/folders/m08a.html
footprint M08A_N (SOIC, 8-Leads, Body 4.9x3.9mm, Pitch 1.27mm, IPC Medium Density)
footprint M08A_L (SOIC, 8-Leads, Body 4.9x3.9mm, Pitch 1.27mm, IPC High Density)
footprint M08A_M (SOIC, 8-Leads, Body 4.9x3.9mm, Pitch 1.27mm, IPC Low Density)
pins: 1 NC, 2 IN- (in), 3 IN+ (in), 4 V- (power), 5 NC, 6 OUT (out), 7 V+ (power), 8 NC

## LMH6609MF
designator U?
900 MHz Voltage Feedback Op Amp, 5-pin SOT-23; PartNumber: LMH6609MF; Manufacturer: National Semiconductor; PackageTopMarking: A89A*XTT; PowerWise: N; CompType: Amplifiers; High-Reliability: Y; DatasheetVersion: Aug-2003; PackageVersion: revD, Aug-2008; PackageReference: MF05A; PackageDescription: Molded SOT-23, .115 x .063 x .040 in Body, 5 Lead, .0375 in Pitch; RoHS: N; PinCount: 5; ComponentLink1Description: Manufacturer URL; ComponentLink1URL: http://www.national.com/; ComponentLink2Description: LMH6609 Datasheet; ComponentLink2URL: http://www.national.com/ds/LM/LMH6609.pdf; ComponentLink3Description: LMH6609 Web Page; ComponentLink3URL: http://www.national.com/pf/LM/LMH6609.html; ComponentLink4Description: MF05A Package Page; ComponentLink4URL: http://www.national.com/packaging/folders/mf05a.html
footprint MF05A_N (SOT23, 5-Leads, Body 2.9x1.6mm, Pitch 0.95mm, Lead Span 2.8mm, IPC Medium Density)
footprint MF05A_L (SOT23, 5-Leads, Body 2.9x1.6mm, Pitch 0.95mm, Lead Span 2.8mm, IPC High Density)
footprint MF05A_M (SOT23, 5-Leads, Body 2.9x1.6mm, Pitch 0.95mm, Lead Span 2.8mm, IPC Low Density)
pins: 1 OUT (out), 2 V- (power), 3 IN+ (in), 4 IN- (in), 5 V+ (power)

## LMH6609MF/NOPB
designator U?
900 MHz Voltage Feedback Op Amp, 5-pin SOT-23, Pb-Free; PartNumber: LMH6609MF/NOPB; Manufacturer: National Semiconductor; PackageTopMarking: A89A*XTT; PowerWise: N; CompType: Amplifiers; High-Reliability: Y; DatasheetVersion: Aug-2003; PackageVersion: revD, Aug-2008; PackageReference: MF05A; PackageDescription: Molded SOT-23, .115 x .063 x .040 in Body, 5 Lead, .0375 in Pitch; RoHS: Y; PinCount: 5; ComponentLink1Description: Manufacturer URL; ComponentLink1URL: http://www.national.com/; ComponentLink2Description: LMH6609 Datasheet; ComponentLink2URL: http://www.national.com/ds/LM/LMH6609.pdf; ComponentLink3Description: LMH6609 Web Page; ComponentLink3URL: http://www.national.com/pf/LM/LMH6609.html; ComponentLink4Description: MF05A Package Page; ComponentLink4URL: http://www.national.com/packaging/folders/mf05a.html
footprint MF05A_N (SOT23, 5-Leads, Body 2.9x1.6mm, Pitch 0.95mm, Lead Span 2.8mm, IPC Medium Density)
footprint MF05A_L (SOT23, 5-Leads, Body 2.9x1.6mm, Pitch 0.95mm, Lead Span 2.8mm, IPC High Density)
footprint MF05A_M (SOT23, 5-Leads, Body 2.9x1.6mm, Pitch 0.95mm, Lead Span 2.8mm, IPC Low Density)
pins: 1 OUT (out), 2 V- (power), 3 IN+ (in), 4 IN- (in), 5 V+ (power)

## LMH6609MFX
designator U?
900 MHz Voltage Feedback Op Amp, 5-pin SOT-23; PartNumber: LMH6609MFX; Manufacturer: National Semiconductor; PackageTopMarking: A89A*XTT; PowerWise: N; CompType: Amplifiers; High-Reliability: Y; DatasheetVersion: Aug-2003; PackageVersion: revD, Aug-2008; PackageReference: MF05A; PackageDescription: Molded SOT-23, .115 x .063 x .040 in Body, 5 Lead, .0375 in Pitch; RoHS: N; PinCount: 5; ComponentLink1Description: Manufacturer URL; ComponentLink1URL: http://www.national.com/; ComponentLink2Description: LMH6609 Datasheet; ComponentLink2URL: http://www.national.com/ds/LM/LMH6609.pdf; ComponentLink3Description: LMH6609 Web Page; ComponentLink3URL: http://www.national.com/pf/LM/LMH6609.html; ComponentLink4Description: MF05A Package Page; ComponentLink4URL: http://www.national.com/packaging/folders/mf05a.html
footprint MF05A_N (SOT23, 5-Leads, Body 2.9x1.6mm, Pitch 0.95mm, Lead Span 2.8mm, IPC Medium Density)
footprint MF05A_L (SOT23, 5-Leads, Body 2.9x1.6mm, Pitch 0.95mm, Lead Span 2.8mm, IPC High Density)
footprint MF05A_M (SOT23, 5-Leads, Body 2.9x1.6mm, Pitch 0.95mm, Lead Span 2.8mm, IPC Low Density)
pins: 1 OUT (out), 2 V- (power), 3 IN+ (in), 4 IN- (in), 5 V+ (power)

## LMH6611MK
designator U?
Single Supply 345 MHz Rail-to-Rail Output Amplifier, 6-pin Tiny SOT23; PartNumber: LMH6611MK; Manufacturer: National Semiconductor; PackageTopMarking: AX4A*XTT; PowerWise: Y; CompType: Amplifiers; DatasheetVersion: Jan-2010; PackageVersion: revE, Nov-2008; PackageReference: MK06A; PackageDescription: Molded TSOT, 2.97 x 1.65 x 0.87mm Body, 6 Lead, 0.95mm Pitch; RoHS: Y; PinCount: 6; High-Reliability: Y; Code_JEDEC: MO-193-AA; Code_IPC: SOT26A-6; ComponentLink1Description: Manufacturer URL; ComponentLink1URL: http://www.national.com/; ComponentLink2Description: LMH6611 Datasheet; ComponentLink2URL: http://www.national.com/ds/LM/LMH6611.pdf; ComponentLink3Description: LMH6611 Web Page; ComponentLink3URL: http://www.national.com/pf/LM/LMH6611.html; ComponentLink4Description: MK06A Package Page; ComponentLink4URL: http://www.national.com/packaging/folders/mk06a.html
footprint MK06A_N (SOT23, 6-Leads, Body 3.0x1.7mm, Pitch 0.95mm, Lead Span 2.9mm, IPC Medium Density)
footprint MK06A_L (SOT23, 6-Leads, Body 3.0x1.7mm, Pitch 0.95mm, Lead Span 2.9mm, IPC High Density)
footprint MK06A_M (SOT23, 6-Leads, Body 3.0x1.7mm, Pitch 0.95mm, Lead Span 2.9mm, IPC Low Density)
pins: 1 OUT (out), 2 V- (power), 3 IN+ (in), 4 IN- (in), 5 ~{DIS}, 6 V+ (power)

## LMH6611MK/NOPB
designator U?
Single Supply 345 MHz Rail-to-Rail Output Amplifier, 6-pin Tiny SOT23, Pb-Free; PartNumber: LMH6611MK/NOPB; Manufacturer: National Semiconductor; PackageTopMarking: AX4A*XTT; PowerWise: Y; CompType: Amplifiers; DatasheetVersion: Jan-2010; PackageVersion: revE, Nov-2008; PackageReference: MK06A; PackageDescription: Molded TSOT, 2.97 x 1.65 x 0.87mm Body, 6 Lead, 0.95mm Pitch; RoHS: Y; PinCount: 6; High-Reliability: Y; Code_JEDEC: MO-193-AA; Code_IPC: SOT26A-6; ComponentLink1Description: Manufacturer URL; ComponentLink1URL: http://www.national.com/; ComponentLink2Description: LMH6611 Datasheet; ComponentLink2URL: http://www.national.com/ds/LM/LMH6611.pdf; ComponentLink3Description: LMH6611 Web Page; ComponentLink3URL: http://www.national.com/pf/LM/LMH6611.html; ComponentLink4Description: MK06A Package Page; ComponentLink4URL: http://www.national.com/packaging/folders/mk06a.html
footprint MK06A_N (SOT23, 6-Leads, Body 3.0x1.7mm, Pitch 0.95mm, Lead Span 2.9mm, IPC Medium Density)
footprint MK06A_L (SOT23, 6-Leads, Body 3.0x1.7mm, Pitch 0.95mm, Lead Span 2.9mm, IPC High Density)
footprint MK06A_M (SOT23, 6-Leads, Body 3.0x1.7mm, Pitch 0.95mm, Lead Span 2.9mm, IPC Low Density)
pins: 1 OUT (out), 2 V- (power), 3 IN+ (in), 4 IN- (in), 5 ~{DIS}, 6 V+ (power)

## LMH6611MKE/NOPB
designator U?
Single Supply 345 MHz Rail-to-Rail Output Amplifier, 6-pin Tiny SOT23, Pb-Free; PartNumber: LMH6611MKE/NOPB; Manufacturer: National Semiconductor; PackageTopMarking: AX4A*XTT; PowerWise: Y; CompType: Amplifiers; DatasheetVersion: Jan-2010; PackageVersion: revE, Nov-2008; PackageReference: MK06A; PackageDescription: Molded TSOT, 2.97 x 1.65 x 0.87mm Body, 6 Lead, 0.95mm Pitch; RoHS: Y; PinCount: 6; High-Reliability: Y; Code_JEDEC: MO-193-AA; Code_IPC: SOT26A-6; ComponentLink1Description: Manufacturer URL; ComponentLink1URL: http://www.national.com/; ComponentLink2Description: LMH6611 Datasheet; ComponentLink2URL: http://www.national.com/ds/LM/LMH6611.pdf; ComponentLink3Description: LMH6611 Web Page; ComponentLink3URL: http://www.national.com/pf/LM/LMH6611.html; ComponentLink4Description: MK06A Package Page; ComponentLink4URL: http://www.national.com/packaging/folders/mk06a.html
footprint MK06A_N (SOT23, 6-Leads, Body 3.0x1.7mm, Pitch 0.95mm, Lead Span 2.9mm, IPC Medium Density)
footprint MK06A_L (SOT23, 6-Leads, Body 3.0x1.7mm, Pitch 0.95mm, Lead Span 2.9mm, IPC High Density)
footprint MK06A_M (SOT23, 6-Leads, Body 3.0x1.7mm, Pitch 0.95mm, Lead Span 2.9mm, IPC Low Density)
pins: 1 OUT (out), 2 V- (power), 3 IN+ (in), 4 IN- (in), 5 ~{DIS}, 6 V+ (power)

## LMH6611MKX/NOPB
designator U?
Single Supply 345 MHz Rail-to-Rail Output Amplifier, 6-pin Tiny SOT23, Pb-Free; PartNumber: LMH6611MKX/NOPB; Manufacturer: National Semiconductor; PackageTopMarking: AX4A*XTT; PowerWise: Y; CompType: Amplifiers; DatasheetVersion: Jan-2010; PackageVersion: revE, Nov-2008; PackageReference: MK06A; PackageDescription: Molded TSOT, 2.97 x 1.65 x 0.87mm Body, 6 Lead, 0.95mm Pitch; RoHS: Y; PinCount: 6; High-Reliability: Y; Code_JEDEC: MO-193-AA; Code_IPC: SOT26A-6; ComponentLink1Description: Manufacturer URL; ComponentLink1URL: http://www.national.com/; ComponentLink2Description: LMH6611 Datasheet; ComponentLink2URL: http://www.national.com/ds/LM/LMH6611.pdf; ComponentLink3Description: LMH6611 Web Page; ComponentLink3URL: http://www.national.com/pf/LM/LMH6611.html; ComponentLink4Description: MK06A Package Page; ComponentLink4URL: http://www.national.com/packaging/folders/mk06a.html
footprint MK06A_N (SOT23, 6-Leads, Body 3.0x1.7mm, Pitch 0.95mm, Lead Span 2.9mm, IPC Medium Density)
footprint MK06A_L (SOT23, 6-Leads, Body 3.0x1.7mm, Pitch 0.95mm, Lead Span 2.9mm, IPC High Density)
footprint MK06A_M (SOT23, 6-Leads, Body 3.0x1.7mm, Pitch 0.95mm, Lead Span 2.9mm, IPC Low Density)
pins: 1 OUT (out), 2 V- (power), 3 IN+ (in), 4 IN- (in), 5 ~{DIS}, 6 V+ (power)

## LMH6612MA
designator U?
Single Supply, Dual 345 MHz Rail-to-Rail Output Amplifier, 8-pin Narrow SOIC; PartNumber: LMH6612MA; Manufacturer: National Semiconductor; PackageTopMarking: NSZXTT*LMH66*12MA; PowerWise: Y; CompType: Amplifiers; DatasheetVersion: Jan-2010; PackageVersion: revM, May-2009; PackageReference: M08A; PackageDescription: SOIC Narrow, 4.9 x 3.9 x 1.45mm, 8 Lead, 1.27mm Pitch; RoHS: Y; PinCount: 8; High-Reliability: Y; Code_JEDEC: MS-012-AA; Code_IPC: SOIC127P600-8; ComponentLink1Description: Manufacturer URL; ComponentLink1URL: http://www.national.com/; ComponentLink2Description: LMH6612 Datasheet; ComponentLink2URL: http://www.national.com/ds/LM/LMH6612.pdf; ComponentLink3Description: LMH6612 Web Page; ComponentLink3URL: http://www.national.com/pf/LM/LMH6612.html; ComponentLink4Description: M08A Package Page; ComponentLink4URL: http://www.national.com/packaging/folders/m08a.html
footprint M08A_N (SOIC, 8-Leads, Body 4.9x3.9mm, Pitch 1.27mm, IPC Medium Density)
footprint M08A_L (SOIC, 8-Leads, Body 4.9x3.9mm, Pitch 1.27mm, IPC High Density)
footprint M08A_M (SOIC, 8-Leads, Body 4.9x3.9mm, Pitch 1.27mm, IPC Low Density)
pins on every part: 4 V- (power), 8 V+ (power)
part A pins: 1 OUTA (out), 2 INA- (in), 3 INA+ (in)
part B pins: 5 INB+ (in), 6 INB- (in), 7 OUTB (out)

## LMH6612MA/NOPB
designator U?
Single Supply, Dual 345 MHz Rail-to-Rail Output Amplifier, 8-pin Narrow SOIC, Pb-Free; PartNumber: LMH6612MA/NOPB; Manufacturer: National Semiconductor; PackageTopMarking: NSZXTT*LMH66*12MA; PowerWise: Y; CompType: Amplifiers; DatasheetVersion: Jan-2010; PackageVersion: revM, May-2009; PackageReference: M08A; PackageDescription: SOIC Narrow, 4.9 x 3.9 x 1.45mm, 8 Lead, 1.27mm Pitch; RoHS: Y; PinCount: 8; High-Reliability: Y; Code_JEDEC: MS-012-AA; Code_IPC: SOIC127P600-8; ComponentLink1Description: Manufacturer URL; ComponentLink1URL: http://www.national.com/; ComponentLink2Description: LMH6612 Datasheet; ComponentLink2URL: http://www.national.com/ds/LM/LMH6612.pdf; ComponentLink3Description: LMH6612 Web Page; ComponentLink3URL: http://www.national.com/pf/LM/LMH6612.html; ComponentLink4Description: M08A Package Page; ComponentLink4URL: http://www.national.com/packaging/folders/m08a.html
footprint M08A_N (SOIC, 8-Leads, Body 4.9x3.9mm, Pitch 1.27mm, IPC Medium Density)
footprint M08A_L (SOIC, 8-Leads, Body 4.9x3.9mm, Pitch 1.27mm, IPC High Density)
footprint M08A_M (SOIC, 8-Leads, Body 4.9x3.9mm, Pitch 1.27mm, IPC Low Density)
pins on every part: 4 V- (power), 8 V+ (power)
part A pins: 1 OUTA (out), 2 INA- (in), 3 INA+ (in)
part B pins: 5 INB+ (in), 6 INB- (in), 7 OUTB (out)

## LMH6612MAX/NOPB
designator U?
Single Supply, Dual 345 MHz Rail-to-Rail Output Amplifier, 8-pin Narrow SOIC, Pb-Free; PartNumber: LMH6612MAX/NOPB; Manufacturer: National Semiconductor; PackageTopMarking: NSZXTT*LMH66*12MA; PowerWise: Y; CompType: Amplifiers; DatasheetVersion: Jan-2010; PackageVersion: revM, May-2009; PackageReference: M08A; PackageDescription: SOIC Narrow, 4.9 x 3.9 x 1.45mm, 8 Lead, 1.27mm Pitch; RoHS: Y; PinCount: 8; High-Reliability: Y; Code_JEDEC: MS-012-AA; Code_IPC: SOIC127P600-8; ComponentLink1Description: Manufacturer URL; ComponentLink1URL: http://www.national.com/; ComponentLink2Description: LMH6612 Datasheet; ComponentLink2URL: http://www.national.com/ds/LM/LMH6612.pdf; ComponentLink3Description: LMH6612 Web Page; ComponentLink3URL: http://www.national.com/pf/LM/LMH6612.html; ComponentLink4Description: M08A Package Page; ComponentLink4URL: http://www.national.com/packaging/folders/m08a.html
footprint M08A_N (SOIC, 8-Leads, Body 4.9x3.9mm, Pitch 1.27mm, IPC Medium Density)
footprint M08A_L (SOIC, 8-Leads, Body 4.9x3.9mm, Pitch 1.27mm, IPC High Density)
footprint M08A_M (SOIC, 8-Leads, Body 4.9x3.9mm, Pitch 1.27mm, IPC Low Density)
pins on every part: 4 V- (power), 8 V+ (power)
part A pins: 1 OUTA (out), 2 INA- (in), 3 INA+ (in)
part B pins: 5 INB+ (in), 6 INB- (in), 7 OUTB (out)

## LMH6618MK
designator U?
Single 130 MHz, 1.25 mA RRIO Operational Amplifiers, 6-pin Tiny SOT23; PartNumber: LMH6618MK; Manufacturer: National Semiconductor; PackageTopMarking: AE4A*XTT; PowerWise: Y; DatasheetVersion: Aug-2008; PackageVersion: revE, Nov-2008; PackageReference: MK06A; PackageDescription: Molded TSOT, 2.97 x 1.65 x 0.87mm Body, 6 Lead, 0.95mm Pitch; RoHS: Y; PinCount: 6; CompType: Amplifiers; High-Reliability: Y; Code_JEDEC: MO-193-AA; Code_IPC: SOT26A-6; ComponentLink1Description: Manufacturer URL; ComponentLink1URL: http://www.national.com/; ComponentLink2Description: LMH6618 Datasheet; ComponentLink2URL: http://www.national.com/ds/LM/LMH6618.pdf; ComponentLink3Description: LMH6618 Web Page; ComponentLink3URL: http://www.national.com/pf/LM/LMH6618.html; ComponentLink4Description: MK06A Package Page; ComponentLink4URL: http://www.national.com/packaging/folders/mk06a.html
footprint MK06A_N (SOT23, 6-Leads, Body 3.0x1.7mm, Pitch 0.95mm, Lead Span 2.9mm, IPC Medium Density)
footprint MK06A_L (SOT23, 6-Leads, Body 3.0x1.7mm, Pitch 0.95mm, Lead Span 2.9mm, IPC High Density)
footprint MK06A_M (SOT23, 6-Leads, Body 3.0x1.7mm, Pitch 0.95mm, Lead Span 2.9mm, IPC Low Density)
pins: 1 OUT (out), 2 V- (power), 3 IN+ (in), 4 IN- (in), 5 ~{DIS}, 6 V+ (power)

## LMH6618MK/NOPB
designator U?
Single 130 MHz, 1.25 mA RRIO Operational Amplifiers, 6-pin Tiny SOT23, Pb-Free; PartNumber: LMH6618MK/NOPB; Manufacturer: National Semiconductor; PackageTopMarking: AE4A*XTT; PowerWise: Y; DatasheetVersion: Aug-2008; PackageVersion: revE, Nov-2008; PackageReference: MK06A; PackageDescription: Molded TSOT, 2.97 x 1.65 x 0.87mm Body, 6 Lead, 0.95mm Pitch; RoHS: Y; PinCount: 6; CompType: Amplifiers; High-Reliability: Y; Code_JEDEC: MO-193-AA; Code_IPC: SOT26A-6; ComponentLink1Description: Manufacturer URL; ComponentLink1URL: http://www.national.com/; ComponentLink2Description: LMH6618 Datasheet; ComponentLink2URL: http://www.national.com/ds/LM/LMH6618.pdf; ComponentLink3Description: LMH6618 Web Page; ComponentLink3URL: http://www.national.com/pf/LM/LMH6618.html; ComponentLink4Description: MK06A Package Page; ComponentLink4URL: http://www.national.com/packaging/folders/mk06a.html
footprint MK06A_N (SOT23, 6-Leads, Body 3.0x1.7mm, Pitch 0.95mm, Lead Span 2.9mm, IPC Medium Density)
footprint MK06A_L (SOT23, 6-Leads, Body 3.0x1.7mm, Pitch 0.95mm, Lead Span 2.9mm, IPC High Density)
footprint MK06A_M (SOT23, 6-Leads, Body 3.0x1.7mm, Pitch 0.95mm, Lead Span 2.9mm, IPC Low Density)
pins: 1 OUT (out), 2 V- (power), 3 IN+ (in), 4 IN- (in), 5 ~{DIS}, 6 V+ (power)

## LMH6618MKE/NOPB
designator U?
Single 130 MHz, 1.25 mA RRIO Operational Amplifiers, 6-pin Tiny SOT23, Pb-Free; PartNumber: LMH6618MKE/NOPB; Manufacturer: National Semiconductor; PackageTopMarking: AE4A*XTT; PowerWise: Y; DatasheetVersion: Aug-2008; PackageVersion: revE, Nov-2008; PackageReference: MK06A; PackageDescription: Molded TSOT, 2.97 x 1.65 x 0.87mm Body, 6 Lead, 0.95mm Pitch; RoHS: Y; PinCount: 6; CompType: Amplifiers; High-Reliability: Y; Code_JEDEC: MO-193-AA; Code_IPC: SOT26A-6; ComponentLink1Description: Manufacturer URL; ComponentLink1URL: http://www.national.com/; ComponentLink2Description: LMH6618 Datasheet; ComponentLink2URL: http://www.national.com/ds/LM/LMH6618.pdf; ComponentLink3Description: LMH6618 Web Page; ComponentLink3URL: http://www.national.com/pf/LM/LMH6618.html; ComponentLink4Description: MK06A Package Page; ComponentLink4URL: http://www.national.com/packaging/folders/mk06a.html
footprint MK06A_N (SOT23, 6-Leads, Body 3.0x1.7mm, Pitch 0.95mm, Lead Span 2.9mm, IPC Medium Density)
footprint MK06A_L (SOT23, 6-Leads, Body 3.0x1.7mm, Pitch 0.95mm, Lead Span 2.9mm, IPC High Density)
footprint MK06A_M (SOT23, 6-Leads, Body 3.0x1.7mm, Pitch 0.95mm, Lead Span 2.9mm, IPC Low Density)
pins: 1 OUT (out), 2 V- (power), 3 IN+ (in), 4 IN- (in), 5 ~{DIS}, 6 V+ (power)

## LMH6618MKX/NOPB
designator U?
Single 130 MHz, 1.25 mA RRIO Operational Amplifiers, 6-pin Tiny SOT23, Pb-Free; PartNumber: LMH6618MKX/NOPB; Manufacturer: National Semiconductor; PackageTopMarking: AE4A*XTT; PowerWise: Y; DatasheetVersion: Aug-2008; PackageVersion: revE, Nov-2008; PackageReference: MK06A; PackageDescription: Molded TSOT, 2.97 x 1.65 x 0.87mm Body, 6 Lead, 0.95mm Pitch; RoHS: Y; PinCount: 6; CompType: Amplifiers; High-Reliability: Y; Code_JEDEC: MO-193-AA; Code_IPC: SOT26A-6; ComponentLink1Description: Manufacturer URL; ComponentLink1URL: http://www.national.com/; ComponentLink2Description: LMH6618 Datasheet; ComponentLink2URL: http://www.national.com/ds/LM/LMH6618.pdf; ComponentLink3Description: LMH6618 Web Page; ComponentLink3URL: http://www.national.com/pf/LM/LMH6618.html; ComponentLink4Description: MK06A Package Page; ComponentLink4URL: http://www.national.com/packaging/folders/mk06a.html
footprint MK06A_N (SOT23, 6-Leads, Body 3.0x1.7mm, Pitch 0.95mm, Lead Span 2.9mm, IPC Medium Density)
footprint MK06A_L (SOT23, 6-Leads, Body 3.0x1.7mm, Pitch 0.95mm, Lead Span 2.9mm, IPC High Density)
footprint MK06A_M (SOT23, 6-Leads, Body 3.0x1.7mm, Pitch 0.95mm, Lead Span 2.9mm, IPC Low Density)
pins: 1 OUT (out), 2 V- (power), 3 IN+ (in), 4 IN- (in), 5 ~{DIS}, 6 V+ (power)

## LMH6619MA
designator U?
Dual 130 MHz, 1.25 mA RRIO Operational Amplifiers, 8-pin Narrow SOIC; PartNumber: LMH6619MA; Manufacturer: National Semiconductor; PackageTopMarking: NSZXTT*LMH66*19MA; PowerWise: Y; DatasheetVersion: Aug-2008; PackageVersion: revM, May-2009; PackageReference: M08A; PackageDescription: SOIC Narrow, 4.9 x 3.9 x 1.45mm, 8 Lead, 1.27mm Pitch; RoHS: Y; PinCount: 8; CompType: Amplifiers; High-Reliability: Y; Code_JEDEC: MS-012-AA; Code_IPC: SOIC127P600-8; ComponentLink1Description: Manufacturer URL; ComponentLink1URL: http://www.national.com/; ComponentLink2Description: LMH6619 Datasheet; ComponentLink2URL: http://www.national.com/ds/LM/LMH6619.pdf; ComponentLink3Description: LMH6619 Web Page; ComponentLink3URL: http://www.national.com/pf/LM/LMH6619.html; ComponentLink4Description: M08A Package Page; ComponentLink4URL: http://www.national.com/packaging/folders/m08a.html
footprint M08A_N (SOIC, 8-Leads, Body 4.9x3.9mm, Pitch 1.27mm, IPC Medium Density)
footprint M08A_L (SOIC, 8-Leads, Body 4.9x3.9mm, Pitch 1.27mm, IPC High Density)
footprint M08A_M (SOIC, 8-Leads, Body 4.9x3.9mm, Pitch 1.27mm, IPC Low Density)
pins on every part: 4 V- (power), 8 V+ (power)
part A pins: 1 OUTA (out), 2 INA- (in), 3 INA+ (in)
part B pins: 5 INB+ (in), 6 INB- (in), 7 OUTB (out)

## LMH6619MA/NOPB
designator U?
Dual 130 MHz, 1.25 mA RRIO Operational Amplifiers, 8-pin Narrow SOIC, Pb-Free; PartNumber: LMH6619MA/NOPB; Manufacturer: National Semiconductor; PackageTopMarking: NSZXTT*LMH66*19MA; PowerWise: Y; DatasheetVersion: Aug-2008; PackageVersion: revM, May-2009; PackageReference: M08A; PackageDescription: SOIC Narrow, 4.9 x 3.9 x 1.45mm, 8 Lead, 1.27mm Pitch; RoHS: Y; PinCount: 8; CompType: Amplifiers; High-Reliability: Y; Code_JEDEC: MS-012-AA; Code_IPC: SOIC127P600-8; ComponentLink1Description: Manufacturer URL; ComponentLink1URL: http://www.national.com/; ComponentLink2Description: LMH6619 Datasheet; ComponentLink2URL: http://www.national.com/ds/LM/LMH6619.pdf; ComponentLink3Description: LMH6619 Web Page; ComponentLink3URL: http://www.national.com/pf/LM/LMH6619.html; ComponentLink4Description: M08A Package Page; ComponentLink4URL: http://www.national.com/packaging/folders/m08a.html
footprint M08A_N (SOIC, 8-Leads, Body 4.9x3.9mm, Pitch 1.27mm, IPC Medium Density)
footprint M08A_L (SOIC, 8-Leads, Body 4.9x3.9mm, Pitch 1.27mm, IPC High Density)
footprint M08A_M (SOIC, 8-Leads, Body 4.9x3.9mm, Pitch 1.27mm, IPC Low Density)
pins on every part: 4 V- (power), 8 V+ (power)
part A pins: 1 OUTA (out), 2 INA- (in), 3 INA+ (in)
part B pins: 5 INB+ (in), 6 INB- (in), 7 OUTB (out)

## LMH6619MAE/NOPB
designator U?
Dual 130 MHz, 1.25 mA RRIO Operational Amplifiers, 8-pin Narrow SOIC, Pb-Free; PartNumber: LMH6619MAE/NOPB; Manufacturer: National Semiconductor; PackageTopMarking: NSZXTT*LMH66*19MA; PowerWise: Y; DatasheetVersion: Aug-2008; PackageVersion: revM, May-2009; PackageReference: M08A; PackageDescription: SOIC Narrow, 4.9 x 3.9 x 1.45mm, 8 Lead, 1.27mm Pitch; RoHS: Y; PinCount: 8; CompType: Amplifiers; High-Reliability: Y; Code_JEDEC: MS-012-AA; Code_IPC: SOIC127P600-8; ComponentLink1Description: Manufacturer URL; ComponentLink1URL: http://www.national.com/; ComponentLink2Description: LMH6619 Datasheet; ComponentLink2URL: http://www.national.com/ds/LM/LMH6619.pdf; ComponentLink3Description: LMH6619 Web Page; ComponentLink3URL: http://www.national.com/pf/LM/LMH6619.html; ComponentLink4Description: M08A Package Page; ComponentLink4URL: http://www.national.com/packaging/folders/m08a.html
footprint M08A_N (SOIC, 8-Leads, Body 4.9x3.9mm, Pitch 1.27mm, IPC Medium Density)
footprint M08A_L (SOIC, 8-Leads, Body 4.9x3.9mm, Pitch 1.27mm, IPC High Density)
footprint M08A_M (SOIC, 8-Leads, Body 4.9x3.9mm, Pitch 1.27mm, IPC Low Density)
pins on every part: 4 V- (power), 8 V+ (power)
part A pins: 1 OUTA (out), 2 INA- (in), 3 INA+ (in)
part B pins: 5 INB+ (in), 6 INB- (in), 7 OUTB (out)

## LMH6619MAX/NOPB
designator U?
Dual 130 MHz, 1.25 mA RRIO Operational Amplifiers, 8-pin Narrow SOIC, Pb-Free; PartNumber: LMH6619MAX/NOPB; Manufacturer: National Semiconductor; PackageTopMarking: NSZXTT*LMH66*19MA; PowerWise: Y; DatasheetVersion: Aug-2008; PackageVersion: revM, May-2009; PackageReference: M08A; PackageDescription: SOIC Narrow, 4.9 x 3.9 x 1.45mm, 8 Lead, 1.27mm Pitch; RoHS: Y; PinCount: 8; CompType: Amplifiers; High-Reliability: Y; Code_JEDEC: MS-012-AA; Code_IPC: SOIC127P600-8; ComponentLink1Description: Manufacturer URL; ComponentLink1URL: http://www.national.com/; ComponentLink2Description: LMH6619 Datasheet; ComponentLink2URL: http://www.national.com/ds/LM/LMH6619.pdf; ComponentLink3Description: LMH6619 Web Page; ComponentLink3URL: http://www.national.com/pf/LM/LMH6619.html; ComponentLink4Description: M08A Package Page; ComponentLink4URL: http://www.national.com/packaging/folders/m08a.html
footprint M08A_N (SOIC, 8-Leads, Body 4.9x3.9mm, Pitch 1.27mm, IPC Medium Density)
footprint M08A_L (SOIC, 8-Leads, Body 4.9x3.9mm, Pitch 1.27mm, IPC High Density)
footprint M08A_M (SOIC, 8-Leads, Body 4.9x3.9mm, Pitch 1.27mm, IPC Low Density)
pins on every part: 4 V- (power), 8 V+ (power)
part A pins: 1 OUTA (out), 2 INA- (in), 3 INA+ (in)
part B pins: 5 INB+ (in), 6 INB- (in), 7 OUTB (out)

## LMH6622MA
designator U?
Dual Wideband, Low Noise, 160MHz, Operational Amplifiers, 8-pin Narrow SOIC; PartNumber: LMH6622MA; Manufacturer: National Semiconductor; PackageTopMarking: NSZXTT*LMH66*22MA; PowerWise: Y; DatasheetVersion: Jul-2005; PackageVersion: revM, May-2009; PackageReference: M08A; PackageDescription: SOIC Narrow, 4.9 x 3.9 x 1.45mm, 8 Lead, 1.27mm Pitch; RoHS: N; PinCount: 8; CompType: Amplifiers; High-Reliability: Y; Code_JEDEC: MS-012-AA; Code_IPC: SOIC127P600-8; ComponentLink1Description: Manufacturer URL; ComponentLink1URL: http://www.national.com/; ComponentLink2Description: LMH6622 Datasheet; ComponentLink2URL: http://www.national.com/ds/LM/LMH6622.pdf; ComponentLink3Description: LMH6622 Web Page; ComponentLink3URL: http://www.national.com/pf/LM/LMH6622.html; ComponentLink4Description: M08A Package Page; ComponentLink4URL: http://www.national.com/packaging/folders/m08a.html
footprint M08A_N (SOIC, 8-Leads, Body 4.9x3.9mm, Pitch 1.27mm, IPC Medium Density)
footprint M08A_L (SOIC, 8-Leads, Body 4.9x3.9mm, Pitch 1.27mm, IPC High Density)
footprint M08A_M (SOIC, 8-Leads, Body 4.9x3.9mm, Pitch 1.27mm, IPC Low Density)
pins on every part: 4 V- (power), 8 V+ (power)
part A pins: 1 OUTA (out), 2 INA- (in), 3 INA+ (in)
part B pins: 5 INB+ (in), 6 INB- (in), 7 OUTB (out)